# Altium integrated library XTAL_Abracaon_AST3TQ-T-25.000MHz-28.IntLib: 1 symbol
Pins are listed as number, name and electrical type; pins without a type are passive.

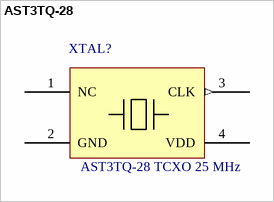
[diagram p0: symbol AST3TQ-28]

## AST3TQ-28
designator XTAL?, comment AST3TQ-28 TCXO 25 MHz
TCXO Oscillators 25MHz 3.3Volt LVCMOS 0.280 ppm -40C 85C
footprint XTAL_ASDM1-25.000MHZ-LC-T
pins: 1 NC, 2 GND, 3 CLK (out), 4 VDD (power)